# EAGLE library part P4-2.4GHZ-EXTENDED-MODULE (library LEAP)
Phase IV 2.4GHz Extended Range LEAP Module. CC2520 <http://www.ti.com/lit/ds/symlink/cc2520.pdf> + CC2592 <http://www.ti.com/lit/ds/symlink/cc2592.pdf> Fits XBee <http://goo.gl/tR4dmV> form factor, 2x 10 pin 2mm pitch headers, 22mm spaced Power: TPS63030 Adjustable Buck/Boost <http://goo.gl/ja9zLB> MIC5353 Adjustable 500mA LDO <http://http://goo.gl/P1ltCq> VIN: 1W, Primary supply INPUT to DC/DC Buck/Boost for wide operating voltage support. VPOS: Buck/Boost OUTPUT / LDO input. VREG: LDO OUTPUT / RF input. Do not power from OUTPUT pins with regulators populated. Pintout: NAME DIR PIN DIR NAME VREG PWR-O 1 | 20 IO GPIO4 HGM I 2 | 19 IO GPIO3 LNA-EN I 3 | 18 IO GPIO2 PA-EN I 4 | 17 IO GPIO1 GPIO5 IO 5 | 16 I SPI-CLK LDO-nSHDN I 6 | 15 I SPI-nCS VPOS PWR-O 7 | 14 PWR GND PS-SYNC I 8 | 13 I SPI-MOSI DCDC-EN I 9 | 12 O SPI-MISO GND PWR 10 | 11 PWR-I VIN © 2017 Phase IV Engineering, inc phaseIVengr.com
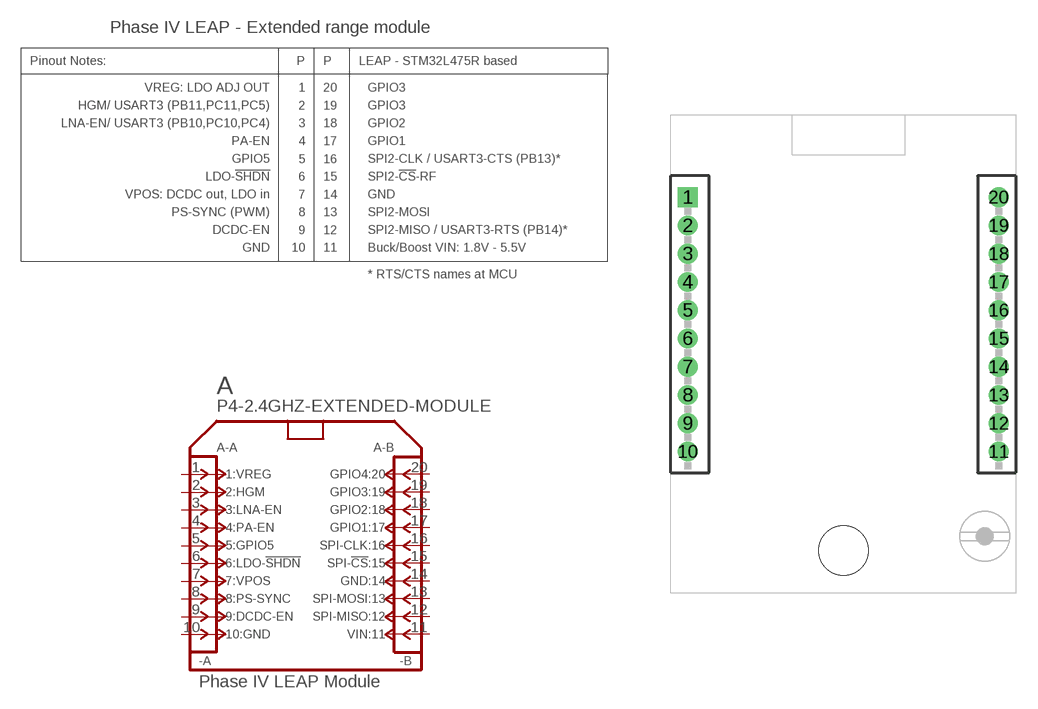
[diagram p1: symbol with the pads of P4-2.4GHZ-EXTENDED; footprint P4-2.4GHZ-EXTENDED]

Designator prefix A; gates -=P4-2.4GHZ-EXTENDED -INFO=P4-LEAP-MODULE-NOTES -A=LEAP_1-10_A -B=LEAP_11-20_B

## P4-2.4GHZ-EXTENDED-MODULE (PARTNO: 44-100313-00)  [P4-2.4GHZ-EXTENDED]
1  -A:1  pas
2  -A:2  pas
3  -A:3  pas
4  -A:4  pas
5  -A:5  pas
6  -A:6  pas
7  -A:7  pas
8  -A:8  pas
9  -A:9  pas
10  -A:10  pas
11  -B:11  pas
12  -B:12  pas
13  -B:13  pas
14  -B:14  pas
15  -B:15  pas
16  -B:16  pas
17  -B:17  pas
18  -B:18  pas
19  -B:19  pas
20  -B:20  pas

## Footprint P4-2.4GHZ-EXTENDED (pad centres in mm)
Phase IV 2.4GHz Extended Range LEAP Module. CC2520 <http://www.ti.com/lit/ds/symlink/cc2520.pdf> + CC2592 <http://www.ti.com/lit/ds/symlink/cc2592.pdf> Fits XBee <http://goo.gl/tR4dmV> form factor, 2x 10 pin 2mm pitch headers, 22mm spaced Power: TPS63030 Adjustable Buck/Boost <http://goo.gl/ja9zLB> MIC5353 Adjustable 500mA LDO <http://http://goo.gl/P1ltCq> VIN: 1W, Primary supply INPUT to DC/DC Buck/Boost for wide operating voltage support. VPOS: Buck/Boost OUTPUT / LDO input. VREG: LDO OUTPUT / RF input. Do not power from OUTPUT pins with regulators populated. Pintout: NAME DIR PIN DIR NAME VREG PWR-O 1 | 20 IO GPIO4 HGM I 2 | 19 IO GPIO3 LNA-EN I 3 | 18 IO GPIO2 PA-EN I 4 | 17 IO GPIO1 GPIO5 IO 5 | 16 I SPI-CLK LDO-nSHDN I 6 | 15 I SPI-nCS VPOS PWR-O 7 | 14 PWR GND PS-SYNC I 8 | 13 I SPI-MOSI DCDC-EN I 9 | 12 O SPI-MISO GND PWR 10 | 11 PWR-I VIN © 2017 Phase IV Engineering, inc phaseIVengr.com
drill 0.711 pad 1.4 square: 1 -11,9
drill 0.711 pad 1.4: 2 -11,7; 3 -11,5; 4 -11,3; 5 -11,1; 6 -11,-1; 7 -11,-3; 8 -11,-5; 9 -11,-7; 10 -11,-9; 11 11,-9; 12 11,-7; 13 11,-5; 14 11,-3; 15 11,-1; 16 11,1; 17 11,3; 18 11,5; 19 11,7; 20 11,9
hole 3.5 at 0,-16